# Altium footprint library UVICHyrbidLibrary (1).PcbLib: 116 footprints (part 4 of 8)
Each footprint in its own frame and in the unit in brackets; x right, y up, seen from the top. Pads: shape width x height; smd on the part's side, far side on the other; paste and mask are expansions set on the pad; w line width, h text height; cw(c..) or ccw(c..) is an arc to the next point about the centre after c.
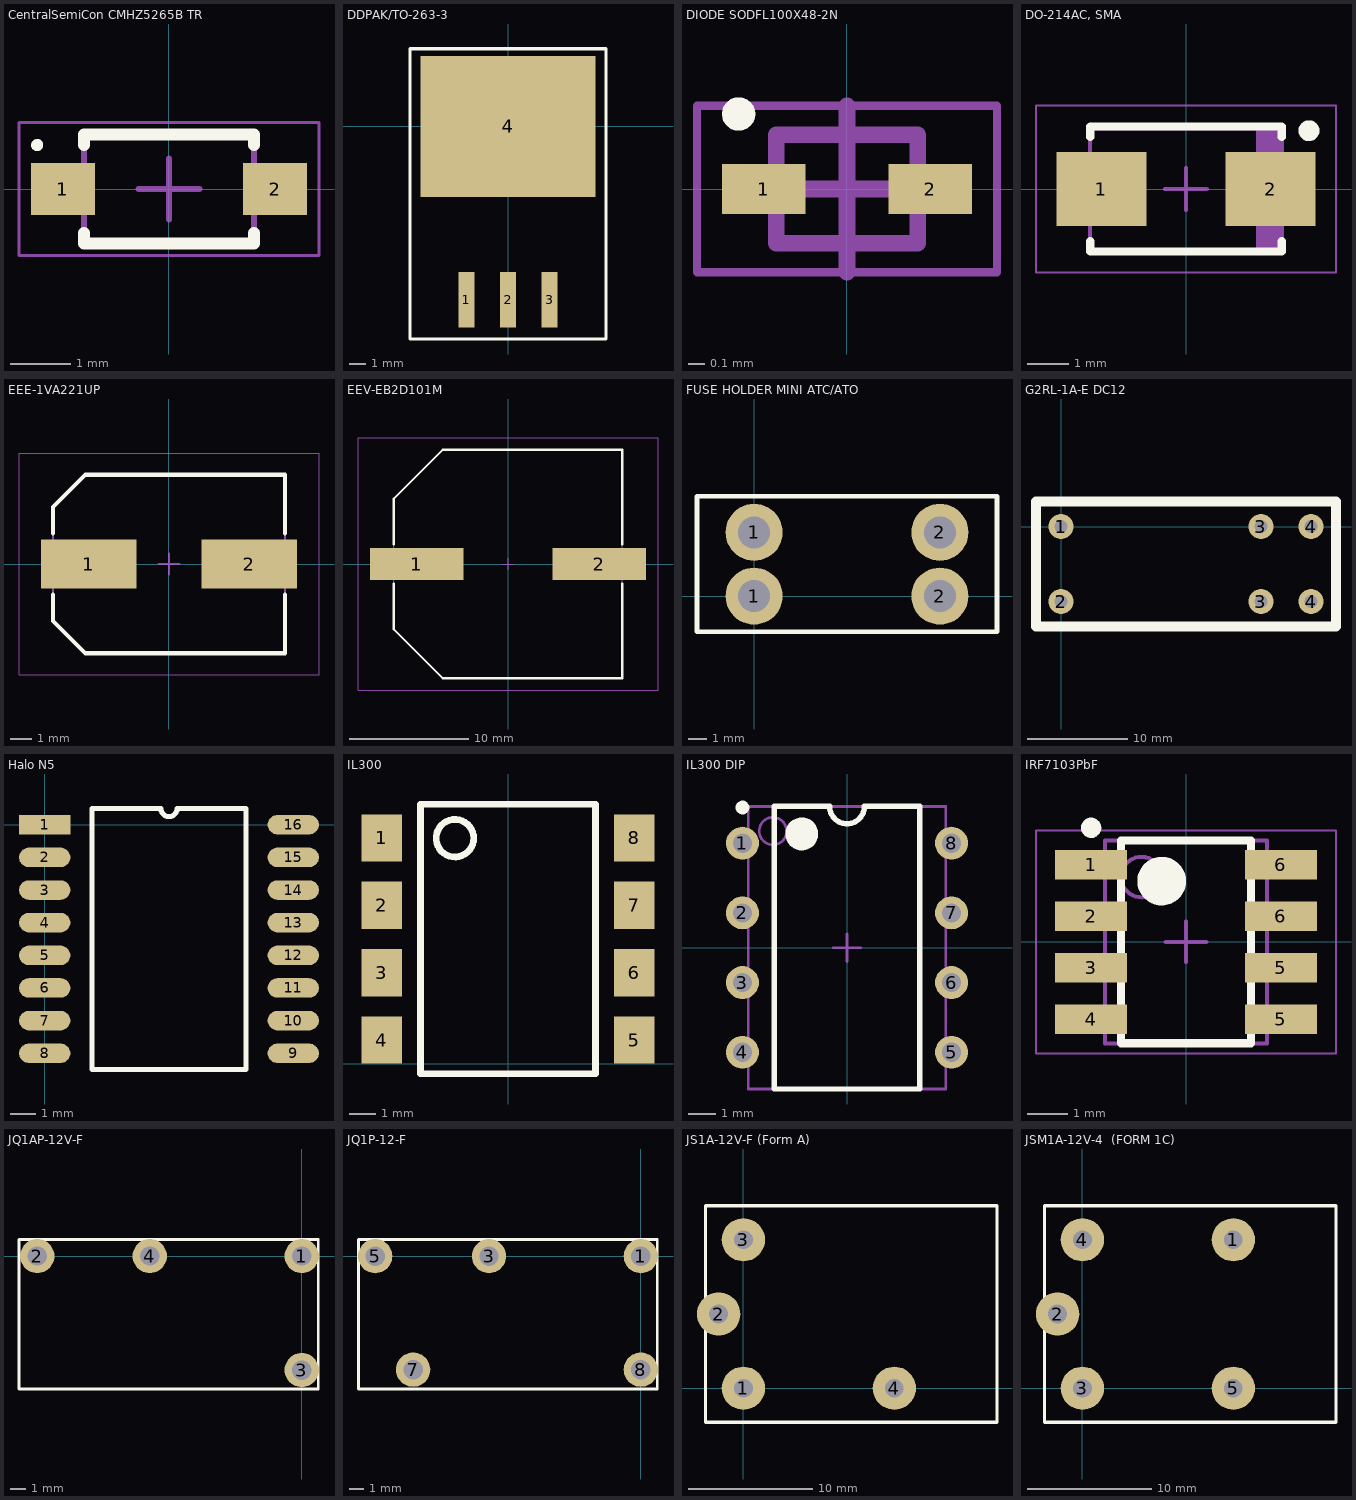
[diagram p3: the footprints below, top view; thin cyan lines are the x and y axes]

## CentralSemiCon CMHZ5265B TR [mm] "SOD123"
height 1.35
pads (2):
  rect 1.05x0.85 smd: 1(-1.75,0) 2(1.75,0)
Top Overlay:
  circle w0.1: c-2.175,0.725 r0.05
  lines w0.2: -1.4,-0.725 -1.4,-0.9 1.4,-0.9 1.4,-0.725 ; -1.4,0.725 -1.4,0.9 1.4,0.9 1.4,0.725
Mechanical 13:
  lines w0.1: -1.4,-0.9 -1.4,0.9 1.4,0.9 1.4,-0.9 -1.4,-0.9
Mechanical 15:
  lines w0.05: -2.475,-1.1 -2.475,1.1 2.475,1.1 2.475,-1.1 -2.475,-1.1
  lines w0.1: -0.5,0 0.5,0 ; 0,-0.5 0,0.5
3D body: height 1.35, standoff 0, extent -1.4,-0.9 1.4,0.9

## DDPAK/TO-263-3 [mm]
pads (4):
  rect 1x3.4 smd: 1(-2.54,-10.6) 2(0,-10.6) 3(2.54,-10.6)
  rect 10.7x8.6 smd: 4(0,0)
Top Overlay:
  lines w0.2: -6,-13 6,-13 6,4.75 -6,4.75 -6,-13

## DIODE SODFL100X48-2N [mm] "SODFL, 2-Leads, Body 0.60x1.00mm, IPC Medium Density 1SS413L3MCT-ND or 1SS413,L3M"
height 0.48
pads (2):
  rect 0.5x0.3 smd: 1(-0.5,0) 2(0.5,0)
Top Overlay:
  circle w0.1: c-0.65,0.45 r0.05
Mechanical 13:
  lines w0.1: -0.425,-0.325 -0.425,0.325 0.425,0.325 0.425,-0.325 -0.425,-0.325
Mechanical 15:
  lines w0.05: -0.9,-0.5 -0.9,0.5 0.9,0.5 0.9,-0.5 -0.9,-0.5
  lines w0.1: -0.5,0 0.5,0 ; 0,-0.5 0,0.5
3D body: height 0.48, standoff 0, extent -0.425,-0.325 0.425,0.325

## DO-214AC, SMA [mil]
height 96.06
pads (2):
  rect 85x70 smd: 1(-80,0) 2(80,0)
Top Overlay:
  circle w9.84: c116.14,55.12 r4.92
  lines w7.87: -90.55,-49.21 -90.55,-59.06 90.55,-59.06 90.55,-49.21 ; -90.55,49.21 -90.55,59.06 90.55,59.06 90.55,49.21
Mechanical 13:
  rectangle: 66.19,-57.48 90.55,57.48
  lines w3.94: -90.55,-57.48 90.55,-57.48 90.55,57.48 -90.55,57.48 -90.55,-57.48
Mechanical 15:
  lines w1.97: -141.73,-78.74 141.73,-78.74 141.73,78.74 -141.73,78.74 -141.73,-78.74
  lines w3.94: -19.69,0 19.68,0 ; 0,-19.68 0,19.69
3D body: height 96.06, standoff 0, extent -90.55,-57.48 90.55,57.48

## EEE-1VA221UP [mm] "Panasonic Aluminum Electrolytic Capacitor, 220uF, 35V, 20%"
height 10.5
pads (2):
  rect 4.5x2.3 smd: 1(-3.775,0) 2(3.775,0)
Top Overlay:
  lines w0.2: -5.45,-1.45 -5.45,-2.675 -3.925,-4.2 5.45,-4.2 5.45,-1.45 ; -5.45,1.45 -5.45,2.675 -3.925,4.2 5.45,4.2 5.45,1.45
Mechanical 13:
  lines w0.1: -5.45,-2.675 -3.925,-4.2 5.45,-4.2 5.45,4.2 -3.925,4.2 -5.45,2.675 -5.45,-2.675
Mechanical 15:
  lines w0.05: -7.05,-5.2 -7.05,5.2 7.05,5.2 7.05,-5.2 -7.05,-5.2
  lines w0.1: -0.5,0 0.5,0 ; 0,-0.5 0,0.5
3D body: height 3.5, standoff 0, extent -5.45,-4.2 5.45,4.2
3D body: height 10.5, standoff 0, extent -4.25,-4.25 4.245,4.247

## EEV-EB2D101M [mm] "100uF, 200V, Panasonic Electrolytic Capacitor"
height 22
pads (2):
  rect 7.85x2.7 smd: 1(-7.65,0) 2(7.65,0)
Top Overlay:
  lines w0.2: -9.6,-1.65 -9.6,-5.475 -5.475,-9.6 9.6,-9.6 9.6,-1.65 ; -9.6,1.65 -9.6,5.475 -5.475,9.6 9.6,9.6 9.6,1.65
Mechanical 13:
  lines w0.1: -9.6,-5.475 -9.6,5.475 -5.475,9.6 9.6,9.6 9.6,-9.6 -5.475,-9.6 -9.6,-5.475
Mechanical 15:
  lines w0.05: -12.6,-10.6 12.6,-10.6 12.6,10.6 -12.6,10.6 -12.6,-10.6
  lines w0.1: -0.5,0 0.5,0 ; 0,-0.5 0,0.5
3D body: height 22, standoff 0, extent -9.25,-9.25 9.25,9.25
3D body: height 7.34, standoff 0, extent -9.6,-9.6 9.6,9.6

## FUSE HOLDER MINI ATC/ATO [mil] "BK-6010"
pads (4):
  round 120 hole 67: 1(0,0) 1(0,134) 2(390,0) 2(390,134)
Top Overlay:
  lines w10: -120,-75 -120,210 510,210 510,-75 -120,-75
3D body: height 290.16, standoff 0, extent -120,-75 510,210

## G2RL-1A-E DC12 [mm] "MID PACK RELAY"
pads (6):
  round 2.5 hole 1.3: 1(0,0) 2(0,-7.5) 3(20,-7.5) 3(20,0) 4(25,-7.5) 4(25,0)
Top Overlay:
  lines w1: -2.5,-10 -2.5,2.5 27.5,2.5 27.5,-10 -2.5,-10

## Halo N5 [mm]
pads (16):
  rect 2x0.76 smd: 1(0,0)
  oval 2x0.76 smd: 2(0,-1.27) 3(0,-2.54) 4(0,-3.81) 5(0,-5.08) 6(0,-6.35) 7(0,-7.62) 8(0,-8.89) 9(9.67,-8.89) 10(9.67,-7.62) 11(9.67,-6.35) 12(9.67,-5.08) 13(9.67,-3.81) 14(9.67,-2.54) 15(9.67,-1.27) 16(9.67,0)
Top Overlay:
  lines w0.2: 1.835,-9.525 1.835,0.635 4.517,0.635 ccw(c4.835,0.635) 5.152,0.635 7.835,0.635 7.835,-9.525 1.835,-9.525

## IL300 [mm] "Vishay SMD-8 Option7"
pads (8):
  rect 1.52x1.78 smd: 1(-4.765,8.51) 2(-4.765,5.97) 3(-4.765,3.43) 4(-4.765,0.89) 5(4.765,0.89) 6(4.765,3.43) 7(4.765,5.97) 8(4.765,8.51)
Top Overlay:
  circle w0.254: c-2,8.5 r0.707
  lines w0.254: -3.302,-0.38 -3.302,9.78 3.302,9.78 3.302,-0.38 0,-0.38 -3.302,-0.38

## IL300 DIP [mm]
pads (8):
  round 1.2 hole 0.7: 1(-3.81,3.81) 2(-3.81,1.27) 3(-3.81,-1.27) 4(-3.81,-3.81) 5(3.81,-3.81) 6(3.81,-1.27) 7(3.81,1.27) 8(3.81,3.81)
Top Overlay:
  circle w0.6: c-1.65,4.15 r0.3
  circle w0.25: c-3.81,5.11 r0.125
  lines w0.2: -2.65,-5.15 2.65,-5.15 2.65,5.15 0.635,5.15 cw(c0,5.15) -0.635,5.15 -2.65,5.15 -2.65,-5.15
Mechanical 13:
  circle w0.1: c-2.7,4.25 r0.5
  lines w0.1: -3.6,-5.15 3.6,-5.15 3.6,5.15 -3.6,5.15 -3.6,-5.15
Mechanical 15:
  lines w0.1: -0.5,0 0.5,0 ; 0,-0.5 0,0.5
3D body: height 5.08, standoff 0, extent -3.6,-5.15 3.6,5.15

## IRF7103PbF [mm] "International Rectifier MOSFET SO-8"
height 1.75
pads (8):
  rect 1.78x0.72 smd: 1(-2.34,1.905) 2(-2.34,0.635) 3(-2.34,-0.635) 4(-2.34,-1.905) 5(2.34,-1.905) 5(2.34,-0.635) 6(2.34,0.635) 6(2.34,1.905)
Top Overlay:
  circle w0.6: c-0.6,1.5 r0.3
  circle w0.25: c-2.34,2.815 r0.125
  lines w0.2: -1.6,-2.5 1.6,-2.5 1.6,2.5 -1.6,2.5 -1.6,-2.5
Mechanical 13:
  circle w0.1: c-1.1,1.6 r0.5
  lines w0.1: -2,-2.5 2,-2.5 2,2.5 -2,2.5 -2,-2.5
Mechanical 15:
  lines w0.05: -3.7,-2.75 3.7,-2.75 3.7,2.75 -3.7,2.75 -3.7,-2.75
  lines w0.1: -0.5,0 0.5,0 ; 0,-0.5 0,0.5
3D body: height 1.75, standoff 0.1, extent -2,-2.5 2,2.5

## JQ1AP-12V-F [mm] "Panasonic 12V, 10A, SPST NC RElay"
pads (4):
  round 2.3 hole 1.3: 1(0,0) 2(-17.68,0) 3(0,-7.62) 4(-10.16,0)
Top Overlay:
  lines w0.2: -18.9,-8.9 -18.9,1.1 1.1,1.1 1.1,-8.9 -18.9,-8.9
3D body: height 15.6, standoff 0.1, extent -18.9,-8.9 1.1,1.1

## JQ1P-12-F [mm] "Panasonic 12V, 10A, Relay, SPDT (FORM C)"
pads (5):
  round 2.3 hole 1.3: 1(0,0) 3(-10.16,0) 5(-17.78,0) 7(-15.24,-7.6) 8(0,-7.6)
Top Overlay:
  lines w0.2: -18.9,-8.9 1.1,-8.9 1.1,1.1 -18.9,1.1 -18.9,-8.9
3D body: height 15.2, standoff 0.1, extent -18.9,-8.9 1.1,1.1

## JS1A-12V-F (Form A) [mm] "Panasonic: 12V, 10A, SPST, Relay, NC"
pads (4):
  round 3.5 hole 1.524: 1(0,0) 2(-2,6) 3(0,12) 4(12.2,0)
Top Overlay:
  lines w0.25: -3.05,-2.75 20.5,-2.75 20.5,14.75 -3.05,14.75 -3.05,-2.75

## JSM1A-12V-4  (FORM 1C) [mm] "Panasonic: 12V, 10A, SPST, Relay, NO"
pads (5):
  round 3.5 hole 1.524: 1(12.2,12) 2(-2,6) 3(0,0) 4(0,12) 5(12.2,0)
Top Overlay:
  lines w0.25: -3.05,-2.75 -3.05,14.75 20.5,14.75 20.5,-2.75 -3.05,-2.75